# Altium footprint library gedj.PcbLib: 28 footprints (part 1 of 2)
Each footprint in its own frame and in the unit in brackets; x right, y up, seen from the top. Pads: shape width x height; smd on the part's side, far side on the other; paste and mask are expansions set on the pad; w line width, h text height; cw(c..) or ccw(c..) is an arc to the next point about the centre after c.
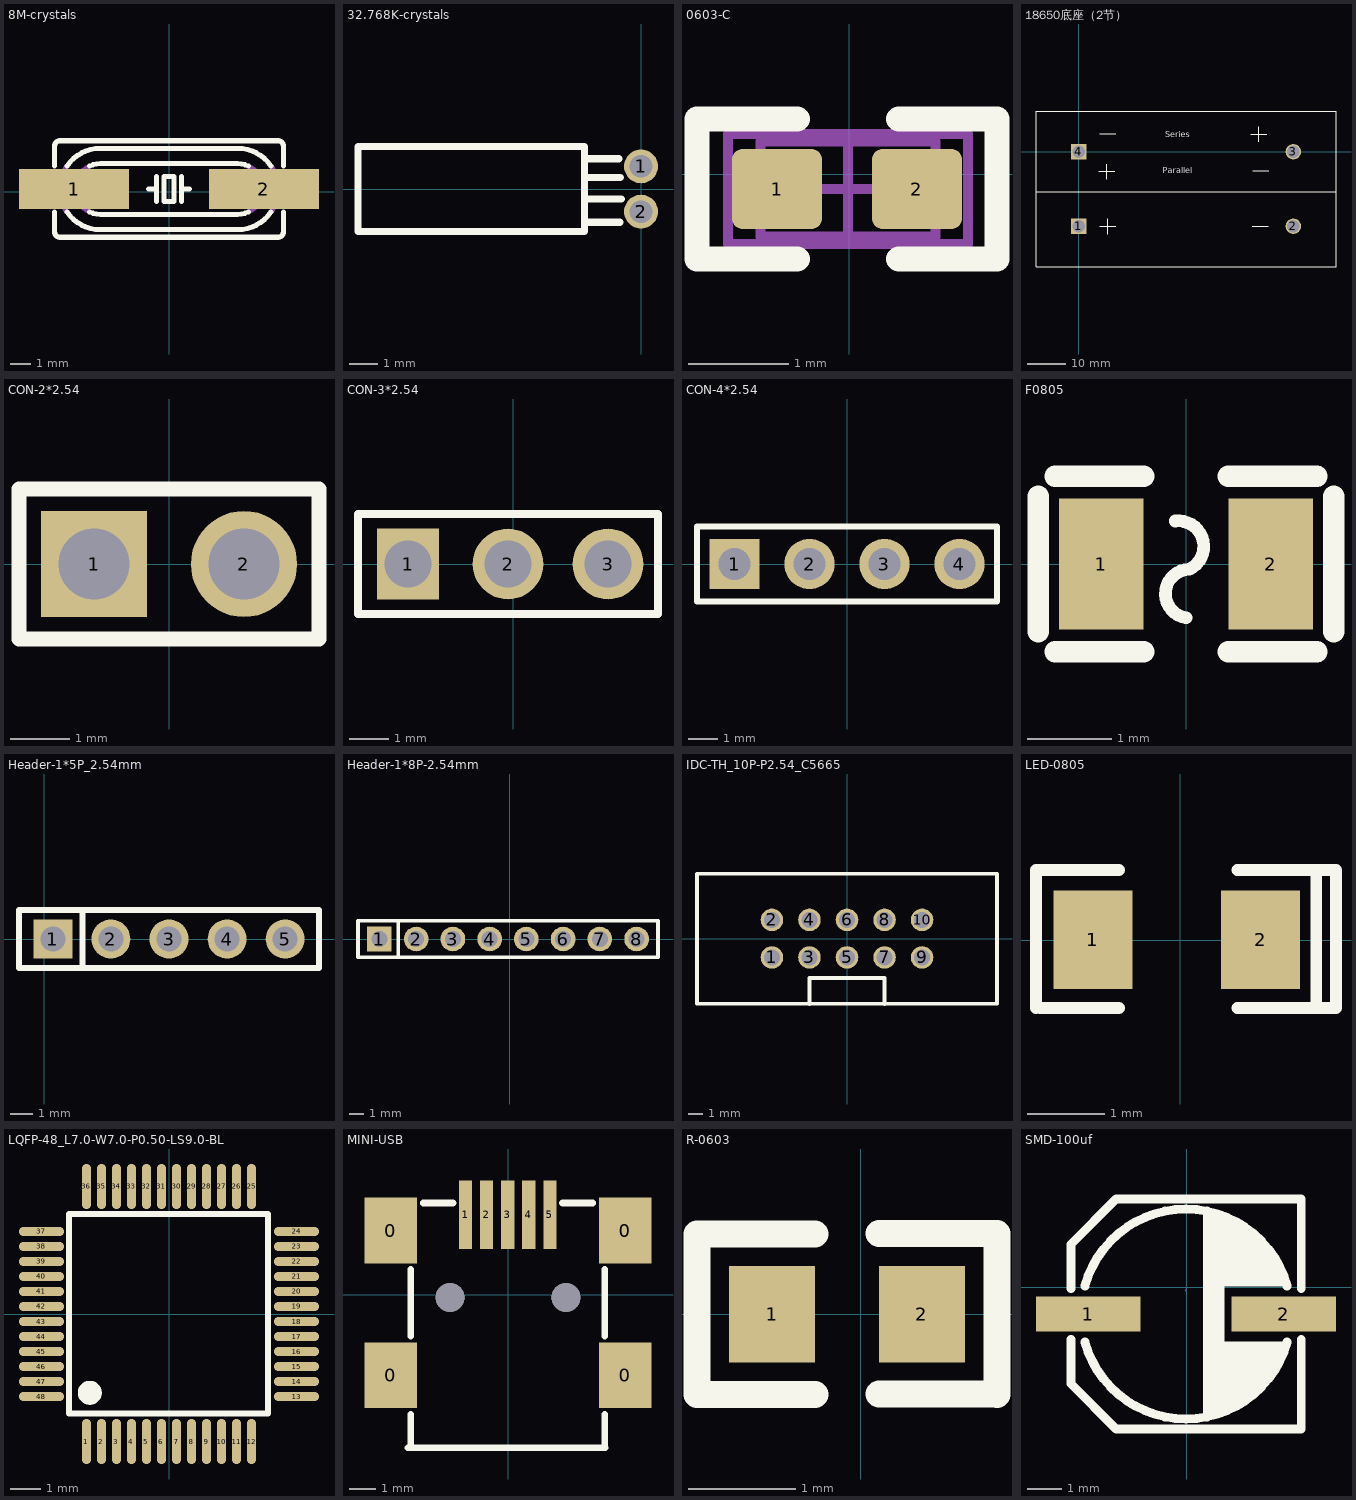
[diagram p0: the footprints below, top view; thin cyan lines are the x and y axes]

## 8M-crystals [mm]
pads (2):
  rect 5.5x2 smd: 1(-4.75,0.127) 2(4.75,0.127)
Top Overlay:
  lines w0.254: -5.715,-1.016 -5.715,-2.032 ccw(c-5.461,-2.032) -5.461,-2.286 5.461,-2.286 ccw(c5.461,-2.032) 5.715,-2.032 5.715,-1.016 ; -5.715,1.27 -5.715,2.286 cw(c-5.461,2.286) -5.461,2.54 5.461,2.54 cw(c5.461,2.286) 5.715,2.286 5.715,1.27 ; -5.109,-1.016 ccw(c-3.429,0.127) -3.429,-1.905 3.429,-1.905 ccw(c3.429,0.127) 5.109,-1.016 ; -5.109,1.27 cw(c-3.429,0.127) -3.429,2.159 3.429,2.159 cw(c3.429,0.127) 5.109,1.27 ; -3.983,-1.016 ccw(c-3.429,0.127) -3.429,-1.143 3.429,-1.143 ccw(c3.429,0.127) 3.983,-1.016 ; -3.983,1.27 cw(c-3.429,0.127) -3.429,1.397 3.429,1.397 cw(c3.429,0.127) 3.983,1.27 ; -1.016,0.127 -0.635,0.127 ; -0.635,-0.508 -0.635,0.127 ; -0.635,0.762 -0.635,0.127 ; 0.635,-0.508 0.635,0.127 ; 0.635,0.762 0.635,0.127 ; 1.016,0.127 0.635,0.127 ; -0.254,-0.508 -0.254,0.762 0.254,0.762 0.254,-0.508 -0.254,-0.508
Mechanical 15:
  lines w0.254: -6.477,0.508 -6.477,-0.254 -5.715,-0.254 ; -5.109,-1.016 cw(c-3.429,0.127) -5.109,1.27 ; -3.983,-1.016 cw(c-3.429,0.127) -3.983,1.27 ; 3.983,-1.016 ccw(c3.429,0.127) 3.983,1.27 ; 5.109,-1.016 ccw(c3.429,0.127) 5.109,1.27

## 32.768K-crystals [mm]
pads (2):
  round 1.2 hole 0.8: 1(0,0.8) 2(0,-0.8)
Top Overlay:
  lines w0.254: -2,-1.177 -0.74,-1.177 ; -2,-0.35 -0.698,-0.35 ; -2,0.403 -0.73,0.403 ; -2,1.071 -0.786,1.071 ; -10,-1.5 -10,1.5 -2,1.5 -2,-1.5 -10,-1.5

## 0603-C [mm]
pads (2):
  rrect25% 0.9x0.8 smd: 1(-0.722,-0.149) 2(0.678,-0.149)
Top Overlay:
  lines w0.254: -0.519,-0.849 -1.522,-0.849 -1.522,0.551 -0.519,0.551 ; 0.497,-0.849 1.478,-0.849 1.478,0.551 0.497,0.551
Mechanical 13:
  lines w0.1: -0.886,-0.624 -0.886,0.326 0.864,0.326 0.864,-0.624 -0.886,-0.624
Mechanical 15:
  lines w0.1: -0.486,-0.149 0.464,-0.149 ; -0.011,-0.624 -0.011,0.326 ; -1.211,-0.699 -1.211,0.401 1.189,0.401 1.189,-0.699 -1.211,-0.699
3D body: height 0.3, standoff 0, extent -0.836,-0.549 0.764,0.251

## 18650底座（2节） [mm]
pads (4):
  rect 4x4 hole 3.2: 1(0,-19.3) 4(0,0)
  round 4 hole 3.2: 2(55.62,-19.3) 3(55.62,0)
Top Overlay:
  lines w0.254: -11.049,-29.755 66.66,-29.755 66.66,10.455 -11.04,10.455 -11.04,-29.755 ; -11.04,-10.414 66.421,-10.414 ; 5.207,-5.08 9.398,-5.08 ; 5.461,-19.304 9.652,-19.304 ; 5.461,4.703 9.652,4.703 ; 7.239,-7.112 7.239,-3.175 ; 7.493,-21.336 7.493,-17.399 ; 44.577,4.572 48.768,4.572 ; 44.958,-19.304 49.149,-19.304 ; 45.085,-4.949 49.276,-4.949 ; 46.609,2.54 46.609,6.477
  text "Parallel" at 21.844,-5.588 h1.52
  text "Series" at 22.479,3.81 h1.52

## CON-2*2.54 [mm]
pads (2):
  rect 1.8x1.8 hole 1.2: 1(-1.27,0)
  round 1.8 hole 1.2: 2(1.27,0)
Top Overlay:
  lines w0.254: -2.54,-1.27 -2.54,1.27 2.54,1.27 2.54,-1.27 -2.54,-1.27

## CON-3*2.54 [mm]
pads (3):
  rect 1.575x1.8 hole 1.2: 1(-2.667,0)
  round 1.8 hole 1.2: 2(-0.127,0) 3(2.413,0)
Top Overlay:
  lines w0.203: -3.937,-1.27 -3.937,1.27 -2.032,1.27 3.683,1.27 3.683,-1.27 -3.937,-1.27

## CON-4*2.54 [mm]
pads (4):
  rect 1.7x1.7 hole 1.1: 1(-3.81,0)
  round 1.7 hole 1.1: 2(-1.27,0) 3(1.27,0) 4(3.81,0)
Top Overlay:
  lines w0.203: -5.08,-1.27 5.08,-1.27 5.08,1.27 -3.175,1.27 -5.08,1.27 -5.08,-1.27

## F0805 [mm]
pads (2):
  rect 1x1.55 smd: 1(-1,0) 2(1,0)
Top Overlay:
  lines w0.15: -0.127,0.508 cw(c-0.091,0.209) 0.037,-0.064 ; 0,-0.635 cw(c0.044,-0.351) 0.036,-0.063
  lines w0.254: -1.75,-0.8 -1.75,0.8 ; -1.55,-1.04 -0.5,-1.04 ; -1.55,1.04 -0.5,1.04 ; 0.5,-1.04 1.55,-1.04 ; 0.5,1.04 1.55,1.04 ; 1.75,-0.8 1.75,0.8

## Header-1*5P_2.54mm [mm]
pads (5):
  rect 1.7x1.7 hole 1.1: 1(0.381,0)
  round 1.7 hole 1.1: 2(2.921,0) 3(5.461,0) 4(8.001,0) 5(10.541,0)
Top Overlay:
  lines w0.254: 1.675,-1.27 1.675,1.27 ; -1.099,-1.27 12.021,-1.27 12.021,1.27 -1.099,1.27 -1.099,-1.27

## Header-1*8P-2.54mm [mm]
pads (8):
  rect 1.7x1.7 hole 1.1: 1(-9.017,0)
  round 1.7 hole 1.1: 2(-6.477,0) 3(-3.937,0) 4(-1.397,0) 5(1.143,0) 6(3.683,0) 7(6.223,0) 8(8.763,0)
Top Overlay:
  lines w0.254: -7.723,-1.27 -7.723,1.27 ; -10.497,-1.27 -10.497,1.27 10.243,1.27 10.243,-1.27 -10.497,-1.27

## IDC-TH_10P-P2.54_C5665 [mil]
pads (10):
  round 60 hole 43.3: 1(-200,-50) 2(-200,50) 3(-100,-50) 4(-100,50) 5(0,-50) 6(0,50) 7(100,-50) 8(100,50) 9(200,-50) 10(200,50)
Top Overlay:
  lines w10: -98,-172 -100,-175 -100,-105 100,-105 100,-174 100,-172 ; -399.61,-173.23 -399.61,173.23 399.6,173.23 399.6,-173.23 -399.61,-173.23

## LED-0805 [mil]
pads (2):
  rect 40x50 smd: 1(-44.23,0.28) 2(40.77,0.28)
Top Overlay:
  lines w5.98: 68.92,-34.33 78.92,-34.33 ; 68.92,35.67 78.92,35.67
  lines w6: -73.09,-34.33 -73.09,35.67 -31.08,35.67 ; -71.08,-34.33 -31.08,-34.33 ; 28.92,-34.33 68.92,-34.33 68.92,35.67 28.92,35.67 ; 78.92,-34.33 78.92,35.67
3D body: height 43.31, standoff 0, extent -42,-23.72 37.53,25.49

## LQFP-48_L7.0-W7.0-P0.50-LS9.0-BL [mm]
pads (48):
  oval 0.3x1.5 smd: 1(-2.75,-4.25) 2(-2.25,-4.25) 3(-1.75,-4.25) 4(-1.25,-4.25) 5(-0.75,-4.25) 6(-0.25,-4.25) 7(0.25,-4.25) 8(0.75,-4.25) 9(1.25,-4.25) 10(1.75,-4.25) 11(2.25,-4.25) 12(2.75,-4.25) 25(2.75,4.25) 26(2.25,4.25) 27(1.75,4.25) 28(1.25,4.25) 29(0.75,4.25) 30(0.25,4.25) 31(-0.25,4.25) 32(-0.75,4.25) 33(-1.25,4.25) 34(-1.75,4.25) 35(-2.25,4.25) 36(-2.75,4.25)
  oval 1.5x0.3 smd: 13(4.25,-2.75) 14(4.25,-2.25) 15(4.25,-1.75) 16(4.25,-1.25) 17(4.25,-0.75) 18(4.25,-0.25) 19(4.25,0.25) 20(4.25,0.75) 21(4.25,1.25) 22(4.25,1.75) 23(4.25,2.25) 24(4.25,2.75) 37(-4.25,2.75) 38(-4.25,2.25) 39(-4.25,1.75) 40(-4.25,1.25) 41(-4.25,0.75) 42(-4.25,0.25) 43(-4.25,-0.25) 44(-4.25,-0.75) 45(-4.25,-1.25) 46(-4.25,-1.75) 47(-4.25,-2.25) 48(-4.25,-2.75)
Top Overlay:
  lines w0.2: -2.896,3.34 3.302,3.34 3.302,-3.315 -3.327,-3.315 -3.327,3.34 -2.565,3.34
  lines w0.4: -2.642,-2.426 ccw(c-2.64,-2.626) -2.639,-2.426

## MINI-USB [mil]
pads (11):
  rect 78.8x98.5 smd: 0(-175.2,-120.22) 0(175.2,-120.22)
  rect 78.8x98.4 smd: 0(-175.2,96.33)
  rect 78.7x98.4 smd: 0(175.15,96.33)
  rect 19.6x102.4 smd: 1(-63.4,120.22) 2(-31.9,120.22) 3(-0.4,120.22) 4(31.1,120.22) 5(62.6,120.22)
  round 43.31 hole 43.31 unplated: ""(-86.6,-3.67) ""(86.6,-3.67)
Top Overlay:
  lines w10: -149.6,-228.47 145.7,-228.47 ; -145.7,-228.07 -145.7,-178.57 ; -145.7,-61.88 -145.7,38.02 ; -126.7,137.51 -82.3,137.51 ; 81.5,137.51 126.7,137.51 ; 144.99,-228.47 144.99,-178.57 ; 144.99,-61.88 144.99,38.02

## R-0603 [mm]
pads (2):
  rect 0.8x0.9 smd: 1(-0.827,0) 2(0.573,0)
Top Overlay:
  lines w0.254: -1.528,-0.75 -0.427,-0.75 ; -1.528,0.75 -0.427,0.75 ; -1.527,-0.75 -1.527,0.75 ; 0.174,-0.745 1.274,-0.745 ; 0.174,0.755 1.274,0.755 ; 1.274,-0.75 1.274,0.75

## SMD-100uf [mm]
pads (2):
  rect 3x1 smd: 1(-2.818,-0.765) 2(2.782,-0.765)
Top Overlay:
  region: 0.482,-3.765 0.482,2.135 1.082,2.035 1.582,1.835 1.882,1.535 2.182,1.335 2.482,1.035 2.682,0.635 2.882,0.035 1.082,0.035 1.082,-1.565 2.882,-1.565 2.782,-1.765 2.682,-2.165 2.382,-2.465 2.182,-2.865 1.782,-3.165 0.982,-3.565
  lines w0.254: -3.315,-1.496 -3.315,-2.764 -2.014,-4.064 3.284,-4.064 3.284,-1.496 ; -3.315,-0.033 -3.315,1.234 -2.014,2.535 3.284,2.535 3.284,-0.033 ; -2.918,-1.565 ccw(c-0.018,-0.765) 2.882,-1.565 ; -2.918,0.035 cw(c-0.018,-0.765) 2.882,0.035
Mechanical 15:
  lines w0.003: -0.043,-0.093 0.007,-0.042